# Altium schematic symbol library BL8530_SOT89.SchLib: 1 symbol
Pins are listed as number, name and electrical type; pins without a type are passive.

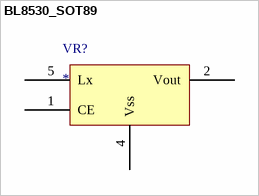
[diagram p0: symbol BL8530_SOT89]

## BL8530_SOT89
designator VR?
pins: 1 CE (power), 2 Vout (power), 4 Vss (power), 5 Lx (power)